# Altium footprint library PcbLib1.PcbLib: 1 footprints
Each footprint in its own frame and in the unit in brackets; x right, y up, seen from the top. Pads: shape width x height; smd on the part's side, far side on the other; paste and mask are expansions set on the pad; w line width, h text height; cw(c..) or ccw(c..) is an arc to the next point about the centre after c.
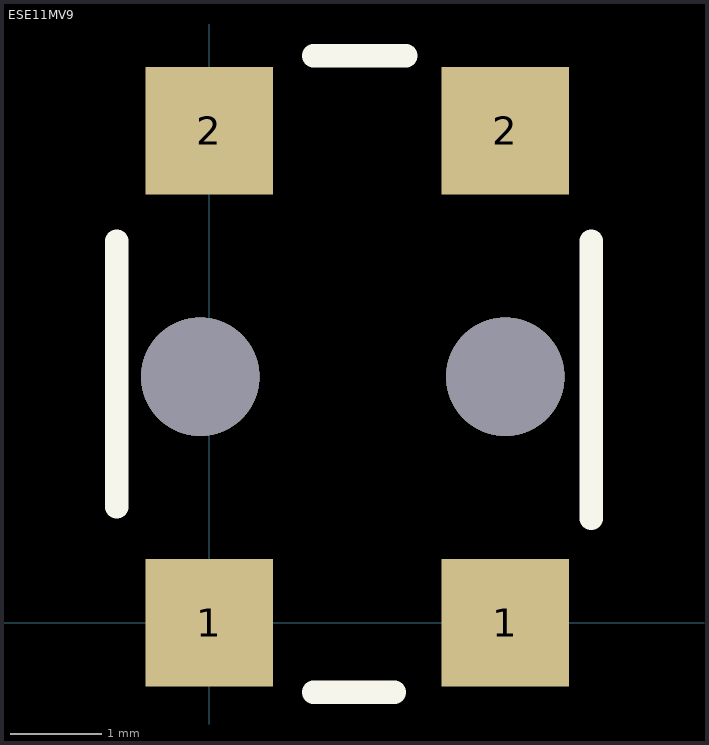
[diagram p0: the footprint, top view; thin cyan lines are the x and y axes]

## ESE11MV9 [mm]
pads (4):
  rect 1.4x1.4 smd: 1(0,0) 1(3.25,0) 2(0,5.4) 2(3.25,5.4)
via -0.1,2.7 diameter 1.3 hole 1.3
via 3.25,2.7 diameter 1.3 hole 1.3
Top Overlay:
  lines w0.254: -1.016,1.27 -1.016,4.191 ; 1.143,-0.762 2.032,-0.762 ; 1.143,6.223 2.159,6.223 ; 4.191,1.143 4.191,4.191